# Altium integrated library ESP32-S3_Super_Mini.IntLib: 1 symbol
Pins are listed as number, name and electrical type; pins without a type are passive.

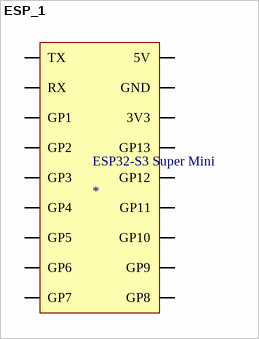
[diagram p0: symbol ESP_1]

## ESP_1
designator ESP32-S3 Super Mini
footprint MODULE_ESP32-C3_SUPERMINI_TH
pins: 1 TX (io) "Sleep", 2 RX (io) "Sleep", 3 GP1 (io) "Sleep", 4 GP2 (io) "Sleep", 5 GP3 (io) "Step-Richtung", 6 GP4 (io) "Sleep", 7 GP5 (io) "Sleep", 8 GP6 (io) "Step-Richtung", 9 GP7 (io) "Step-Richtung", 10 5V (power) "Versorgung Motor", 11 GND (power) "Versorgung Treiber", 12 3V3 (power) "Step-Richtung", 13 GP13 (io) "Sleep", 14 GP12 (io) "Sleep", 15 GP11 (io) "Sleep", 16 GP10 (io) "Step-Richtung", 17 GP9 (io) "Sleep", 18 GP8 (io) "Sleep"